# Altium footprint library DPAK.PcbLib: 4 footprints
Each footprint in its own frame and in the unit in brackets; x right, y up, seen from the top. Pads: shape width x height; smd on the part's side, far side on the other; paste and mask are expansions set on the pad; w line width, h text height; cw(c..) or ccw(c..) is an arc to the next point about the centre after c.
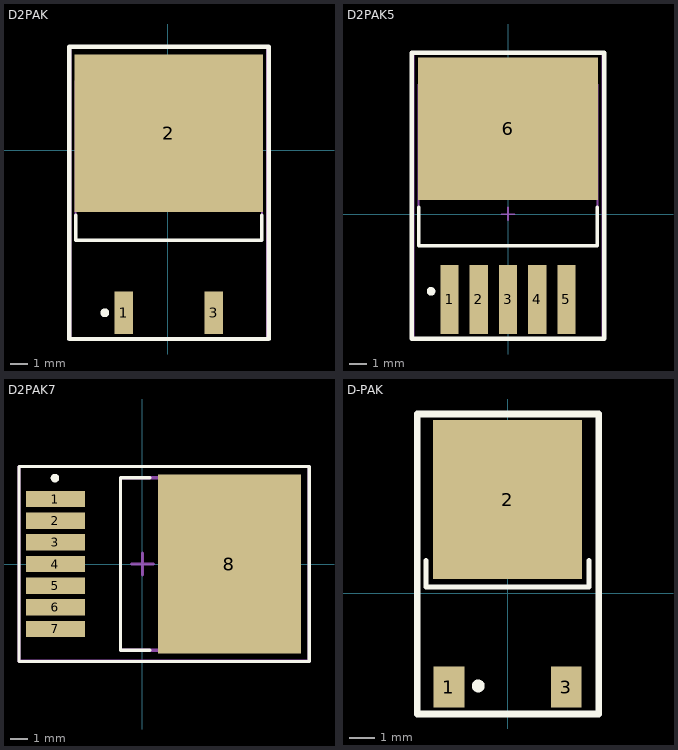
[diagram p0: the footprints below, top view; thin cyan lines are the x and y axes]

## D2PAK [mm] "D2Pak-(TO263/SOT404)"
pads (3):
  rect 1.05x2.4 smd: 1(-2.489,-9.188) 3(2.591,-9.188)
  rect 10.65x8.9 smd paste-2539.97: 2(0.054,0.962)
Top Overlay:
  circle w0.25: c-3.564,-9.188 r0.125
  lines w0.2: -5.199,-3.688 -5.199,-5.088 5.301,-5.088 5.301,-3.688
  lines w0.254: -5.588,-10.668 -5.588,5.842 5.715,5.842 5.715,-10.668 -5.588,-10.668
Top Paste:
  region: -1.906,4.742 -4.906,4.742 -4.906,2.742 -1.906,2.742
  region: 1.587,4.742 -1.413,4.742 -1.413,2.742 1.587,2.742
  region: 5.079,4.742 2.079,4.742 2.079,2.742 5.079,2.742
  region: -1.906,2.012 -4.906,2.012 -4.906,0.012 -1.906,0.012
  region: 1.587,2.012 -1.413,2.012 -1.413,0.012 1.587,0.012
  region: 5.079,2.012 2.079,2.012 2.079,0.012 5.079,0.012
  region: -1.906,-0.719 -4.906,-0.719 -4.906,-2.719 -1.906,-2.719
  region: 1.587,-0.719 -1.413,-0.719 -1.413,-2.719 1.587,-2.719
  region: 5.079,-0.719 2.079,-0.719 2.079,-2.719 5.079,-2.719
Mechanical 13:
  lines w0.1: -5.224,-5.088 5.326,-5.088 5.326,3.912 -5.224,3.912 -5.224,-5.088
Mechanical 15:
  lines w0.1: -0.449,-2.388 0.551,-2.388 ; 0.051,-2.888 0.051,-1.888 ; -5.499,-10.638 5.601,-10.638 5.601,5.842 -5.499,5.842 -5.499,-10.638
3D body "SW3dPS-DPAK.STEP": height 4.98, standoff -0.03, extent -5.026,-10.054 5.134,5.21

## D2PAK5 [mm] "D2PAK5-(TO263-5)"
pads (6):
  rect 1.05x4 smd: 1(-3.4,-4.962) 2(-1.7,-4.962) 3(0,-4.962) 4(1.7,-4.962) 5(3.4,-4.962)
  rect 10.45x8.3 smd paste-2539.97: 6(0,4.963)
Top Overlay:
  circle w0.25: c-4.475,-4.487 r0.125
  lines w0.2: -5.2,0.413 -5.2,-1.837 5.2,-1.837 5.2,0.413
  lines w0.254: -5.588,-7.239 -5.588,9.398 5.588,9.398 5.588,-7.239 -5.588,-7.239
Top Paste:
  rectangle: -4.981,6.76 -1.981,8.76
  rectangle: -1.489,6.76 1.511,8.76
  rectangle: 2.004,6.76 5.004,8.76
  rectangle: -4.981,4.029 -1.981,6.029
  rectangle: -1.489,4.029 1.511,6.029
  rectangle: 2.004,4.029 5.004,6.029
  rectangle: -4.981,1.299 -1.981,3.299
  rectangle: -1.489,1.299 1.511,3.299
  rectangle: 2.004,1.299 5.004,3.299
Mechanical 13:
  lines w0.1: -5.2,-1.837 5.2,-1.837 5.2,7.563 -5.2,7.563 -5.2,-1.837
Mechanical 15:
  lines w0.1: -0.381,0 0.381,0 ; 0,-0.356 0,0.381 ; -5.5,-7.263 5.5,-7.263 5.5,9.363 -5.5,9.363 -5.5,-7.263
3D body "User Library-D²PAK TO-263-5.STEP": height 4.87, standoff 0, extent -5.08,-5.135 5.08,9.095

## D2PAK7 [mm]
pads (8):
  rect 3.45x0.95 smd: 1(-5.1,3.81) 2(-5.1,2.54) 3(-5.1,1.27) 4(-5.1,0) 5(-5.1,-1.27) 6(-5.1,-2.54) 7(-5.1,-3.81)
  rect 8.4x10.5 smd paste-2539.97: 8(5.1,0)
Top Overlay:
  circle w0.25: c-5.13,5.038 r0.125
  lines w0.2: 0.441,-5.05 -1.29,-5.05 -1.29,5.05 0.441,5.05 ; -7.239,-5.715 9.779,-5.715 9.779,5.715 -7.239,5.715 -7.239,-5.715
Top Paste:
  region: 8.921,1.965 8.921,4.965 6.921,4.965 6.921,1.965
  region: 8.921,-1.527 8.921,1.473 6.921,1.473 6.921,-1.527
  region: 8.921,-5.02 8.921,-2.02 6.921,-2.02 6.921,-5.02
  region: 6.19,1.965 6.19,4.965 4.19,4.965 4.19,1.965
  region: 6.19,-1.527 6.19,1.473 4.19,1.473 4.19,-1.527
  region: 6.19,-5.02 6.19,-2.02 4.19,-2.02 4.19,-5.02
  region: 3.46,1.965 3.46,4.965 1.46,4.965 1.46,1.965
  region: 3.46,-1.527 3.46,1.473 1.46,1.473 1.46,-1.527
  region: 3.46,-5.02 3.46,-2.02 1.46,-2.02 1.46,-5.02
Mechanical 13:
  lines w0.2: -1.29,-5.05 -1.29,5.05 7.6,5.05 7.6,-5.05 -1.29,-5.05
Mechanical 15:
  lines w0.2: -0.635,0 0.635,0 ; 0,-0.635 0,0.635 ; -7.239,-5.708 -7.239,5.715 9.779,5.715 9.779,-5.708 -7.239,-5.708
3D body "OPA548FKTWT.stp": height 4.63, standoff 0, extent -6.508,-5.048 8.732,5.048

## D-PAK [mm] "D-PAK/TO-252-AA; 3 Leads (1 Cropped); Body 10.4 (inc. leads) x 6.7 mm (LxW max)"
height 2.38
pads (3):
  rect 1.2x1.6 smd: 1(-2.285,-3.65) 3(2.285,-3.65)
  rect 5.8x6.2 smd paste-2539.97: 2(0,3.65)
Top Overlay:
  circle w0.25: c-1.143,-3.607 r0.125
  lines w0.2: -3.175,1.27 -3.175,0.254 3.175,0.254 3.175,1.27
  lines w0.254: -3.525,-4.699 3.556,-4.699 3.556,6.985 -3.525,6.985 -3.525,-4.699
Top Paste:
  rectangle: 0.294,0.805 2.794,3.305
  rectangle: 0.294,3.98 2.794,6.48
  rectangle: -2.794,0.805 -0.294,3.305
  rectangle: -2.794,3.98 -0.294,6.48
3D body "User Library-DPAK_TO-252AA.STEP": height 2.37, standoff -0.03, extent -3.367,-4.091 3.367,6.009